# EAGLE library part IGEP_LCD (library igep-lcd)
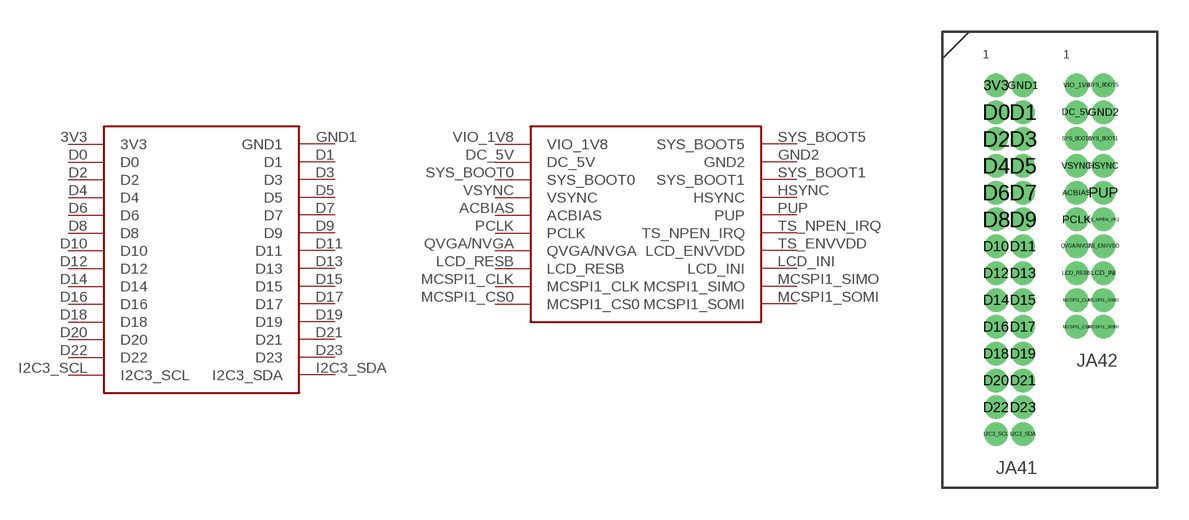
[diagram p0: symbol with the pads of IGEP_LCD; footprint IGEP_LCD]

Designator prefix -

## IGEP_LCD  [IGEP_LCD]
3V3  3V3
ACBIAS  ACBIAS
D0  D0
D1  D1
D2  D2
D3  D3
D4  D4
D5  D5
D6  D6
D7  D7
D8  D8
D9  D9
D10  D10
D11  D11
D12  D12
D13  D13
D14  D14
D15  D15
D16  D16
D17  D17
D18  D18
D19  D19
D20  D20
D21  D21
D22  D22
D23  D23
DC_5V  DC_5V
GND1  GND1
GND2  GND2
HSYNC  HSYNC
I2C3_SCL  I2C3_SCL
I2C3_SDA  I2C3_SDA
LCD_INI  LCD_INI
LCD_RESB  LCD_RESB
MCSPI1_CLK  MCSPI1_CLK
MCSPI1_CS0  MCSPI1_CS0
MCSPI1_SIMO  MCSPI1_SIMO
MCSPI1_SOMI  MCSPI1_SOMI
PCLK  PCLK
PUP  PUP
QVGA/NVGA  QVGA/NVGA
SYS_BOOT0  SYS_BOOT0
SYS_BOOT1  SYS_BOOT1
SYS_BOOT5  SYS_BOOT5
TS_ENVVDD  LCD_ENVVDD
TS_NPEN_IRQ  TS_NPEN_IRQ
VIO_1V8  VIO_1V8
VSYNC  VSYNC

## Footprint IGEP_LCD (pad centres in mm)
PCB Libraries Packages \\\\\\\\
drill 0.6: 3V3 -2.54,5.08; ACBIAS 1.27,0; D0 -2.54,3.81; D1 -1.27,3.81; D2 -2.54,2.54; D3 -1.27,2.54; D4 -2.54,1.27; D5 -1.27,1.27; D6 -2.54,0; D7 -1.27,0; D8 -2.54,-1.27; D9 -1.27,-1.27; D10 -2.54,-2.54; D11 -1.27,-2.54; D12 -2.54,-3.81; D13 -1.27,-3.81; D14 -2.54,-5.08; D15 -1.27,-5.08; D16 -2.54,-6.35; D17 -1.27,-6.35; D18 -2.54,-7.62; D19 -1.27,-7.62; D20 -2.54,-8.89; D21 -1.27,-8.89; D22 -2.54,-10.16; D23 -1.27,-10.16; DC_5V 1.27,3.81; GND1 -1.27,5.08; GND2 2.54,3.81; HSYNC 2.54,1.27; I2C3_SCL -2.54,-11.43; I2C3_SDA -1.27,-11.43; LCD_INI 2.54,-3.81; LCD_RESB 1.27,-3.81; MCSPI1_CLK 1.27,-5.08; MCSPI1_CS0 1.27,-6.35; MCSPI1_SIMO 2.54,-5.08; MCSPI1_SOMI 2.54,-6.35; PCLK 1.27,-1.27; PUP 2.54,0; QVGA/NVGA 1.27,-2.54; SYS_BOOT0 1.27,2.54; SYS_BOOT1 2.54,2.54; SYS_BOOT5 2.54,5.08; TS_ENVVDD 2.54,-2.54; TS_NPEN_IRQ 2.54,-1.27; VIO_1V8 1.27,5.08; VSYNC 1.27,1.27